# EAGLE library part 503500-0991 (library Common-Parts-Library-Eagle)
Conn SD Card SKT 9 POS 2.5mm Solder RA SMD Embossed T/R 0.5A/Contact
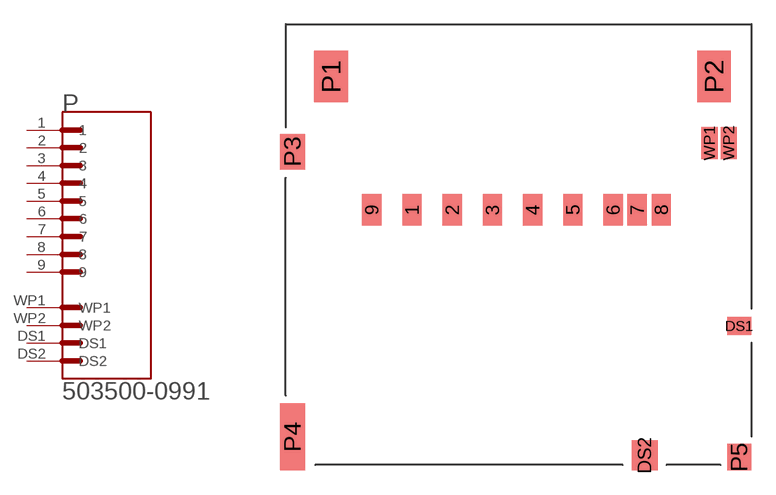
[diagram p13: symbol with the pads of MOLEX_503500-0991; footprint MOLEX_503500-0991]

Designator prefix P

## 503500-0991 (MANUFACTURER: Molex)  [MOLEX_503500-0991]
1  1  pas
2  2  pas
3  3  pas
4  4  pas
5  5  pas
6  6  pas
7  7  pas
8  8  pas
9  9  pas
DS1  DS1  in
DS2  DS2  in
WP1  WP1  in
WP2  WP2  in

## Footprint MOLEX_503500-0991 (pad centres in mm)
smd 1.2 x 1.95: 1 -6.25,0; 2 -3.75,0; 3 -1.25,0; 4 1.25,0; 5 3.75,0; 6 6.25,0; 7 7.75,0; 8 9.25,0; 9 -8.75,0
smd 1.5 x 1.1: DS1 14.095,-7.205
smd 1.6 x 1.87: DS2 8.225,-15.26
smd 2.1 x 3.2: P1 -11.275,8.305; P2 12.525,8.305
smd 1.55 x 2.2: P3 -13.68,3.625
smd 1.55 x 4.17: P4 -13.68,-14.11
smd 1.5 x 1.65: P5 14.095,-15.37
smd 1 x 2: WP1 12.245,4.165; WP2 13.445,4.165